# EAGLE library part ISO1050DW* (library IC_Interface)
Isolated CAN Transceiver SOIC-16 Datasheet <https://www.ti.com/lit/ds/symlink/iso1050.pdf?HQS=dis-dk-null-digikeymode-dsf-pf-null-wwe&ts=1611898260031>
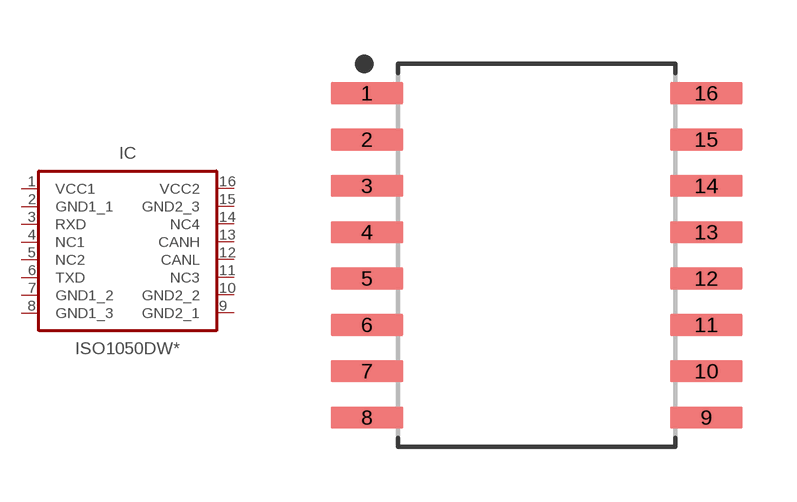
[diagram p13: symbol with the pads of SOIC127P1030X265-16; footprint SOIC127P1030X265-16]

Designator prefix IC

## ISO1050DW (CATEGORY: IC_Interface; DESCRIPTION: 1/1 Transceiver, Isolated Half CANbus 16-SOIC; MANUFACTURER: TEXAS INSTRUMENTS; MPN: ISO1050DW; OPERATING_TEMP: –55°C to 105°C; PART_STATUS: Active; ROHS_COMPLIANT: COMPLIANT; SUB-CATEGORY: Transceiver; TYPE: CAN; VALUE: ISO1050), ISO1050DWR (CATEGORY: IC_Interface; DESCRIPTION: 1/1 Transceiver, Isolated Half CANbus 16-SOIC; MANUFACTURER: TEXAS INSTRUMENTS; MPN: ISO1050DWR; OPERATING_TEMP: –55°C to 105°C; PART_STATUS: Active; ROHS_COMPLIANT: COMPLIANT; SUB-CATEGORY: Transceiver; TYPE: CAN; VALUE: ISO1050)  [SOIC127P1030X265-16]
1  VCC1  pwr
2  GND1_1  pwr
3  RXD  out
4  NC1  nc
5  NC2  nc
6  TXD  in
7  GND1_2  pwr
8  GND1_3  pwr
9  GND2_1  pwr
10  GND2_2  pwr
11  NC3  nc
12  CANL
13  CANH
14  NC4  nc
15  GND2_3  pwr
16  VCC2  pwr

## Footprint SOIC127P1030X265-16 (pad centres in mm)
16-SOIC, 1.27 mm pitch, 10.30 mm span, 10.30 X 7.50 X 2.65 mm body 16-pin SOIC package with 1.27 mm pitch, 10.30 mm span with body size 10.30 X 7.50 X 2.65 mm
smd 2 x 0.6: 1 -4.65,4.445; 2 -4.65,3.175; 3 -4.65,1.905; 4 -4.65,0.635; 5 -4.65,-0.635; 6 -4.65,-1.905; 7 -4.65,-3.175; 8 -4.65,-4.445; 9 4.65,-4.445; 10 4.65,-3.175; 11 4.65,-1.905; 12 4.65,-0.635; 13 4.65,0.635; 14 4.65,1.905; 15 4.65,3.175; 16 4.65,4.445